# Altium schematic symbol library resistor_common.SchLib: 1 symbol
Pins are listed as number, name and electrical type; pins without a type are passive.

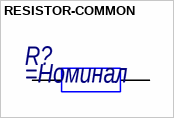
[diagram p0: symbol RESISTOR-COMMON]

## RESISTOR-COMMON
designator R?
=Описание
pins: 1, 2